# Altium footprint library edgy.PcbLib: 18 footprints (part 1 of 2)
Each footprint in its own frame and in the unit in brackets; x right, y up, seen from the top. Pads: shape width x height; smd on the part's side, far side on the other; paste and mask are expansions set on the pad; w line width, h text height; cw(c..) or ccw(c..) is an arc to the next point about the centre after c.
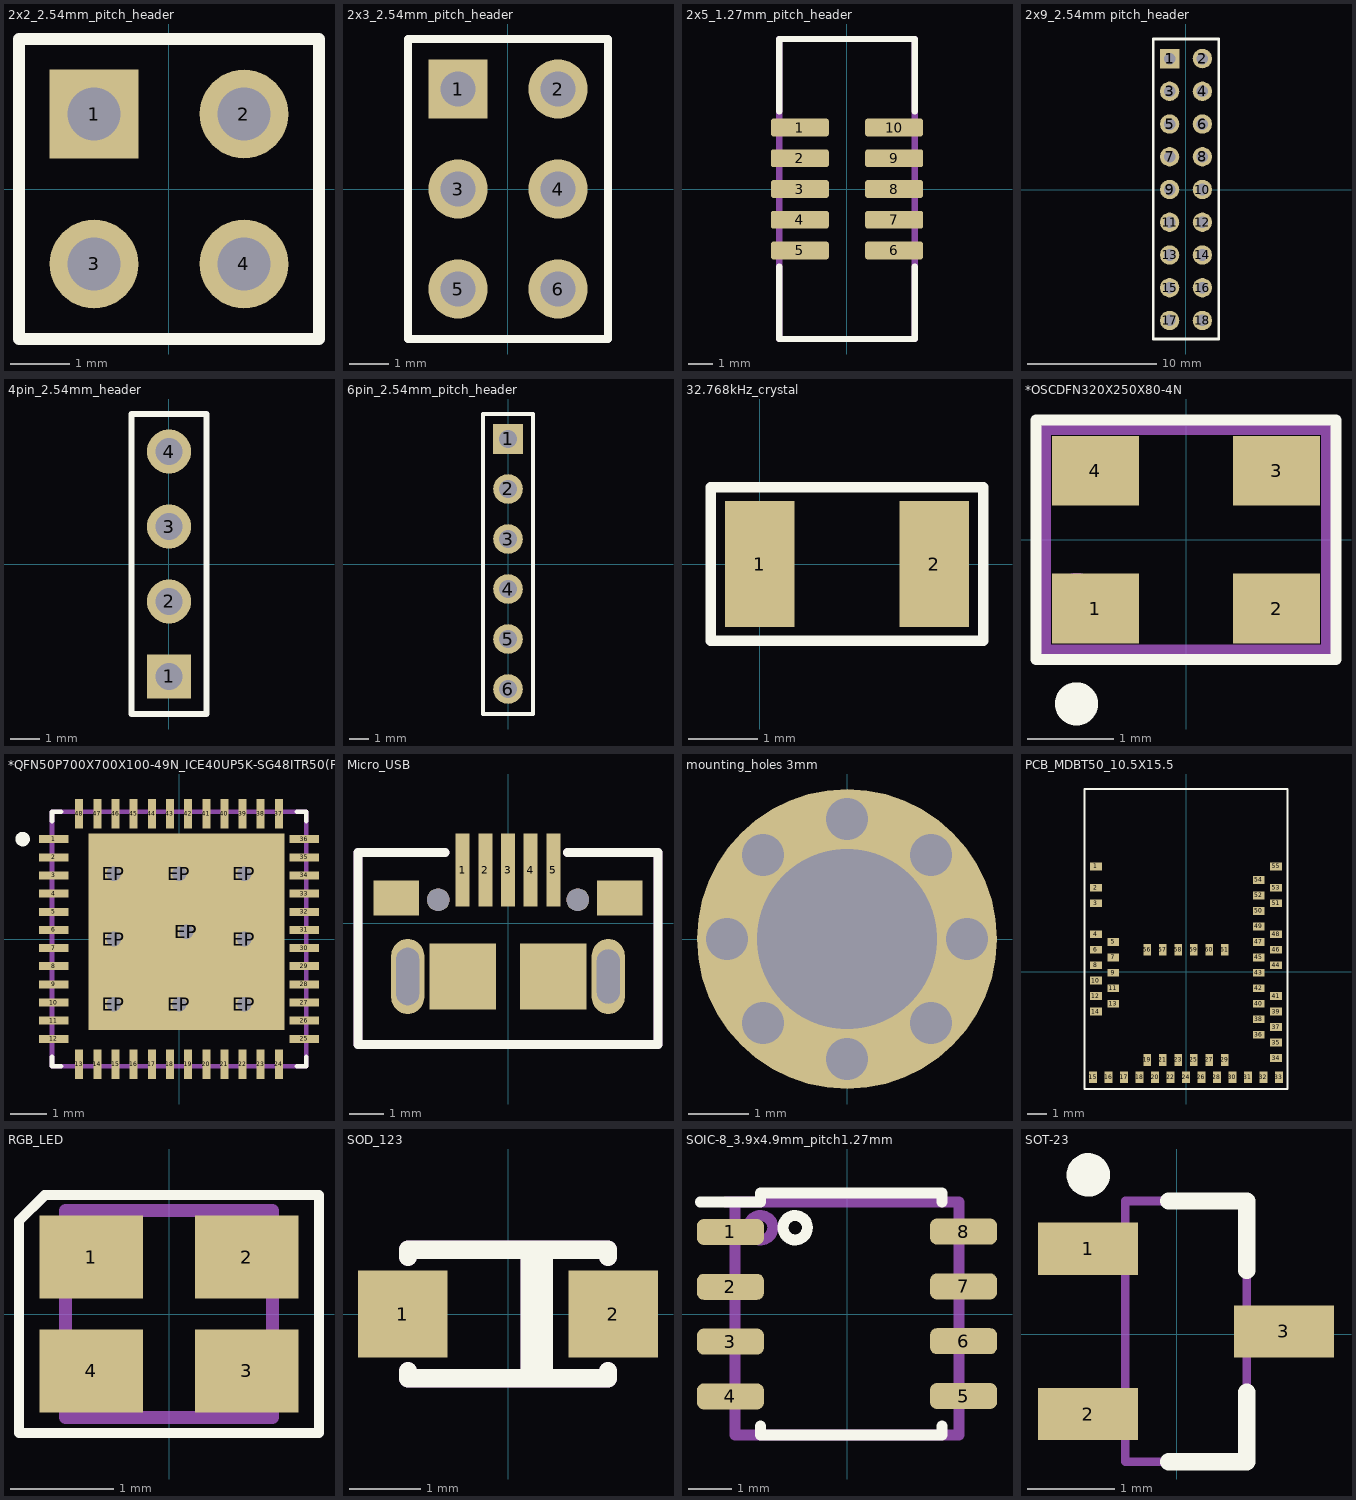
[diagram p0: the footprints below, top view; thin cyan lines are the x and y axes]

## 2x2_2.54mm_pitch_header [mm]
pads (4):
  rect 1.5x1.5 hole 0.9: 1(-1.27,1.27)
  round 1.5 hole 0.9: 2(1.27,1.27) 3(-1.27,-1.27) 4(1.27,-1.27)
Top Overlay:
  lines w0.2: -2.54,-2.54 2.54,-2.54 2.54,2.54 -2.54,2.54 -2.54,-2.54
Mechanical 13:
  text "'.Designator'" at 0,-0.1 h1

## 2x3_2.54mm_pitch_header [mm]
pads (6):
  rect 1.5x1.5 hole 0.9: 1(-1.27,2.54)
  round 1.5 hole 0.9: 2(1.27,2.54) 3(-1.27,0) 4(1.27,0) 5(-1.27,-2.54) 6(1.27,-2.54)
Top Overlay:
  lines w0.2: -2.54,1.058 -2.54,-3.81 ; -2.54,-3.81 -2.54,3.81 2.54,3.81 2.54,-3.81 -2.54,-3.81

## 2x5_1.27mm_pitch_header [mm]
pads (10):
  rrect30% 2.4x0.74 smd: 1(-1.95,2.54) 2(-1.95,1.27) 3(-1.95,0) 4(-1.95,-1.27) 5(-1.95,-2.54) 6(1.95,-2.54) 7(1.95,-1.27) 8(1.95,0) 9(1.95,1.27) 10(1.95,2.54)
Top Overlay:
  lines w0.254: -2.8,-3.2 -2.8,-6.2 2.8,-6.2 2.8,-3.2 ; -2.8,3.2 -2.8,6.2 2.8,6.2 2.8,3.2
Mechanical 13:
  lines w0.254: -2.8,-6.2 2.8,-6.2 2.8,6.2 -2.8,6.2 -2.8,3.2 -2.8,-6.2
  text "'.Designator'" at 0,-0.2 h1
3D body "2x05_1.27mmPitch_BOX-Male.STEP": height 5.4, standoff -0.2, extent -2.75,-6.325 2.75,6.325

## 2x9_2.54mm pitch_header [mm]
pads (18):
  rect 1.5x1.5 hole 0.9: 1(-1.27,10.16)
  round 1.5 hole 0.9: 2(1.27,10.16) 3(-1.27,7.62) 4(1.27,7.62) 5(-1.27,5.08) 6(1.27,5.08) 7(-1.27,2.54) 8(1.27,2.54) 9(-1.27,0) 10(1.27,0) 11(-1.27,-2.54) 12(1.27,-2.54) 13(-1.27,-5.08) 14(1.27,-5.08) 15(-1.27,-7.62) 16(1.27,-7.62) 17(-1.27,-10.16) 18(1.27,-10.16)
Top Overlay:
  lines w0.2: -2.54,-11.6 -2.54,11.68 -1.02,11.68 1.02,11.68 2.54,11.68 2.54,-11.6 -2.54,-11.6
Mechanical 13:
  text "'.Designator'" at 0,0 h1.52
3D body "2x9_2.54mm_pitch_header.stp": height 8.5, standoff -3, extent -2.5,-11.68 2.5,11.68

## 4pin_2.54mm_header [mm]
pads (4):
  rect 1.5x1.5 hole 0.9: 1(0,-3.81)
  round 1.5 hole 0.9: 2(0,-1.27) 3(0,1.27) 4(0,3.81)
Top Overlay:
  lines w0.2: -1.27,-5.08 -1.27,5.08 1.27,5.08 1.27,-5.08 -1.27,-5.08
Mechanical 13:
  text "'.Designator'" at 0,0 h1.52

## 6pin_2.54mm_pitch_header [mm]
pads (6):
  rect 1.5x1.5 hole 0.9: 1(0,6.35)
  round 1.5 hole 0.9: 2(0,3.81) 3(0,1.27) 4(0,-1.27) 5(0,-3.81) 6(0,-6.35)
Top Overlay:
  lines w0.2: -1.27,-7.62 -1.27,7.62 1.27,7.62 1.27,-7.62 -1.27,-7.62
Mechanical 13:
  text "'.Designator'" at -0.8,0 h1.52

## 32.768kHz_crystal [mm]
height 0.9
pads (2):
  rect 1x1.8 smd: 1(0,0) 2(2.5,0)
Top Overlay:
  lines w0.15: -0.7,-1.1 3.2,-1.1 3.2,1.1 -0.7,1.1 -0.7,-1.1
Mechanical 13:
  text "'.Designator'" at 1.3,0 h1
3D body: height 0.25, standoff 0, extent -0.2,-0.7 2.7,0.7

## *OSCDFN320X250X80-4N [mm]
pads (4):
  rect 1.01x0.81 smd: 1(-1.05,-0.8) 2(1.05,-0.8) 3(1.05,0.8) 4(-1.05,0.8)
Top Overlay:
  circle w0.4: c-1.27,-1.905 r0.05
  lines w0.127: -1.74,-1.39 -1.74,1.39 1.74,1.39 1.74,-1.39 -1.74,-1.39
Mechanical 13:
  circle w0.4: c-1.27,-0.635 r0.05
  circle w0.4: c-1.27,-0.635 r0.05
  lines w0.127: -1.63,-1.28 -1.63,1.28 ; -1.63,-1.28 1.63,-1.28 ; -1.63,-1.28 -1.63,1.28 ; -1.63,-1.28 1.63,-1.28 ; -1.63,1.28 1.63,1.28 ; -1.63,1.28 1.63,1.28 ; 1.63,-1.28 1.63,1.28 ; 1.63,-1.28 1.63,1.28
  text "'.Designator'" at 0,0 h1
3D body: height 0.75, standoff 0, extent -1.5,-1 1.5,1

## *QFN50P700X700X100-49N_ICE40UP5K-SG48ITR50(Primary) [mm]
pads (58):
  rect 0.81x0.22 smd: 1(-3.45,2.75) 2(-3.45,2.25) 3(-3.45,1.75) 4(-3.45,1.25) 5(-3.45,0.75) 6(-3.45,0.25) 7(-3.45,-0.25) 8(-3.45,-0.75) 9(-3.45,-1.25) 10(-3.45,-1.75) 11(-3.45,-2.25) 12(-3.45,-2.75) 25(3.45,-2.75) 26(3.45,-2.25) 27(3.45,-1.75) 28(3.45,-1.25) 29(3.45,-0.75) 30(3.45,-0.25) 31(3.45,0.25) 32(3.45,0.75) 33(3.45,1.25) 34(3.45,1.75) 35(3.45,2.25) 36(3.45,2.75)
  rect 0.22x0.81 smd: 13(-2.75,-3.45) 14(-2.25,-3.45) 15(-1.75,-3.45) 16(-1.25,-3.45) 17(-0.75,-3.45) 18(-0.25,-3.45) 19(0.25,-3.45) 20(0.75,-3.45) 21(1.25,-3.45) 22(1.75,-3.45) 23(2.25,-3.45) 24(2.75,-3.45) 37(2.75,3.45) 38(2.25,3.45) 39(1.75,3.45) 40(1.25,3.45) 41(0.75,3.45) 42(0.25,3.45) 43(-0.25,3.45) 44(-0.75,3.45) 45(-1.25,3.45) 46(-1.75,3.45) 47(-2.25,3.45) 48(-2.75,3.45)
  round 0.8 hole 0.4: EP(-1.8,-1.8) EP(-1.8,0) EP(-1.8,1.8) EP(0,-1.8) EP(0,1.8) EP(0.2,0.2) EP(1.8,-1.8) EP(1.8,0) EP(1.8,1.8)
  rect 5.4x5.4 smd: EP(0.2,0.2)
Top Overlay:
  circle w0.2: c-4.308,2.751 r0.1
  lines w0.127: -3.5,-3.25 -3.5,-3.5 -3.25,-3.5 ; -3.5,3.25 -3.5,3.5 -3.25,3.5 ; 3.25,-3.5 3.5,-3.5 3.5,-3.25 ; 3.25,3.5 3.5,3.5 3.5,3.25
Top Paste:
  region: -1.703,1.7 1.7,1.7 1.7,-1.703 -1.703,-1.703
Mechanical 4:
  lines w0.127: -3.5,-3.5 3.5,-3.5 ; -3.5,-3.5 -3.5,3.5 ; -3.5,-3.5 3.5,-3.5 ; -3.5,-3.5 -3.5,3.5 ; -3.5,3.5 3.5,3.5 ; -3.5,3.5 3.5,3.5 ; 3.5,-3.5 3.5,3.5 ; 3.5,-3.5 3.5,3.5
3D body "QFN_48_7x7mm.STEP": height 1, standoff -0.1, extent -3.5,-3.5 3.5,3.5

## Micro_USB [mm]
height 2.95
pads (13):
  rect 0.4x2.1 smd: 1(-1.3,1.525) 2(-0.65,1.525) 3(0,1.525) 4(0.65,1.525) 5(1.3,1.525)
  rect 1.3x1 smd: ""(-3.2,0.725) ""(3.2,0.725)
  oval 0.95x2.15 hole 0.65 slot 1.65 at 90 deg: ""(-2.875,-1.525)
  round 0.65 hole 0.65: ""(-2,0.675) ""(2,0.675)
  rect 1.9x1.9 smd: ""(-1.3,-1.525) ""(1.3,-1.525)
  oval 0.95x2.15 hole 0.65 slot 1.55 at 90 deg: ""(2.875,-1.525)
Top Overlay:
  lines w0.254: -1.8,2.025 -4.3,2.025 -4.3,-3.475 4.3,-3.475 4.3,2.025 1.7,2.025
Mechanical 13:
  lines w0.254: -1.8,2.025 -4.3,2.025 -4.3,-3.475 4.3,-3.475 4.3,2.025 1.7,2.025
  text "'.Designator'" at 0,0 h0.6
3D body "10118194c.stp": height 3.12, standoff -0.15, extent -4.025,-3.375 4.025,2.205
3D body: height 17, standoff 8.4, extent 3.9,2.425 3.9,2.425

## mounting_holes 3mm [mm]
pads (9):
  round 1 hole 0.7: ""(-2,0) ""(-1.4,-1.4) ""(-1.4,1.4) ""(0,-2) ""(0,2) ""(1.4,-1.4) ""(1.4,1.4) ""(2,0)
  round 5 hole 3: ""(0,0)

## PCB_MDBT50_10.5X15.5 [mm]
pads (61):
  rect 0.6x0.4 smd mask+0.05: 1(-4.65,5.45) 2(-4.65,4.35) 3(-4.65,3.55) 4(-4.65,1.95) 5(-3.75,1.55) 6(-4.65,1.15) 7(-3.75,0.75) 8(-4.65,0.35) 9(-3.75,-0.05) 10(-4.65,-0.45) 11(-3.75,-0.85) 12(-4.65,-1.25) 13(-3.75,-1.65) 14(-4.65,-2.05) 34(4.65,-4.45) 35(4.65,-3.65) 36(3.75,-3.25) 37(4.65,-2.85) 38(3.75,-2.45) 39(4.65,-2.05) 40(3.75,-1.65) 41(4.65,-1.25) 42(3.75,-0.85) 43(3.75,-0.05) 44(4.65,0.35) 45(3.75,0.75) 46(4.65,1.15) 47(3.75,1.55) 48(4.65,1.95) 49(3.75,2.35) 50(3.75,3.15) 51(4.65,3.55) 52(3.75,3.95) 53(4.65,4.35) 54(3.75,4.75) 55(4.65,5.45)
  rect 0.4x0.6 smd mask+0.05: 15(-4.8,-5.45) 16(-4,-5.45) 17(-3.2,-5.45) 18(-2.4,-5.45) 19(-2,-4.55) 20(-1.6,-5.45) 21(-1.2,-4.55) 22(-0.8,-5.45) 23(-0.4,-4.55) 24(0,-5.45) 25(0.4,-4.55) 26(0.8,-5.45) 27(1.2,-4.55) 28(1.6,-5.45) 29(2,-4.55) 30(2.4,-5.45) 31(3.2,-5.45) 32(4,-5.45) 33(4.8,-5.45) 56(-2,1.15) 57(-1.2,1.15) 58(-0.4,1.15) 59(0.4,1.15) 60(1.2,1.15) 61(2,1.15)
Top Overlay:
  lines w0.1: -5.25,-6.05 5.25,-6.05 5.25,9.45 0,9.45 -5.25,9.45 -5.25,-6.05
Mechanical 13:
  text "'.Designator'" at 0,-0.05 h1
3D body "MDBT50Q 3D Drawing_20180620.stp": height 2.05, standoff 0, extent -5.25,-6.05 5.25,9.45

## RGB_LED [mm] "SMD LED-0603RGB    0606/1615 RGB-Colorful"
height 0.35
pads (4):
  rect 1x0.8 smd: 1(-0.75,0.55) 2(0.75,0.55) 3(0.75,-0.55) 4(-0.75,-0.55)
Top Overlay:
  lines w0.1: -1.45,-1.15 -1.45,0.9 -1.2,1.15 1.45,1.15 1.45,-1.15 -1.45,-1.15
Mechanical 13:
  lines w0.127: -1,-1 1,-1 1,1 -1,1 -1,-1
  text "'.Designator'" at 0,0 h1
3D body: height 0.25, standoff 0, extent -1.3,0.75 -1.3,0.75
3D body: height 0.25, standoff 0, extent -1,-1 1,1
3D body: height 0.25, standoff 0, extent -0.1,1.05 -0.1,1.05

## SOD_123 [mm]
height 3
pads (2):
  rect 1.25x1.22 smd: 1(-1.475,0) 2(1.475,0)
Top Overlay:
  lines w0.254: -1.4,-0.8 -1.4,-0.9 1.4,-0.9 1.4,-0.8 ; -1.4,0.8 -1.4,0.9 1.4,0.9 1.4,0.8 ; 0.3,-0.9 0.3,0.9 ; 0.5,-0.9 0.5,0.9
Mechanical 13:
  lines w0.254: -1.4,-0.8 -1.4,-0.9 1.4,-0.9 1.4,-0.8 ; -1.4,0.8 -1.4,0.9 1.4,0.9 1.4,0.8 ; 0.3,-0.9 0.3,0.9 ; 0.5,-0.9 0.5,0.9
  text "'.Designator'" at 0,0 h0.6
3D body "SOD-123FL.STEP": height 1.35, standoff 0, extent -1.925,-1.053 1.925,1.1

## SOIC-8_3.9x4.9mm_pitch1.27mm [mm]
pads (8):
  rrect50% 1.55x0.6 smd: 1(-2.7,1.9) 2(-2.7,0.63) 3(-2.7,-0.64) 4(-2.7,-1.91) 5(2.7,-1.9) 6(2.7,-0.63) 7(2.7,0.64) 8(2.7,1.91)
Top Overlay:
  circle w0.254: c-1.2,2 r0.283
  lines w0.254: -3.4,2.6 -2,2.6 -2,2.8 2.2,2.8 2.2,2.6 ; -2,-2.6 -2,-2.8 2.2,-2.8 2.2,-2.6
Mechanical 13:
  circle w0.254: c-2,2 r0.283
  lines w0.254: -2.8,2.6 -2.6,2.6 ; -2.6,2.6 2.6,2.6 2.6,-2.8 -2.6,-2.8 -2.6,2.6
  text "'.Designator'" at 0,0 h1
3D body "SOIC08 narrow.stp": height 2, standoff 0, extent -3.082,-2.6 3.082,2.4

## SOT-23 [mm]
height 1.1
pads (3):
  rect 1.15x0.6 smd: 1(-1.021,0.981) 2(-1.021,-0.919) 3(1.229,0.031)
Top Overlay:
  circle w0.25: c-1.021,1.831 r0.125
  lines w0.2: -0.096,-1.469 0.804,-1.469 0.804,-0.669 ; -0.096,1.531 0.804,1.531 0.804,0.731
Mechanical 13:
  lines w0.1: -0.596,-1.469 -0.596,1.531 0.804,1.531 0.804,-1.469 -0.596,-1.469
  text "'.Designator'" at 0,0 h0.6
3D body: height 1.1, standoff 0, extent -0.596,-1.469 0.804,1.531